# Altium footprint library 二极管、三级管.PcbLib: 3 footprints
Each footprint in its own frame and in the unit in brackets; x right, y up, seen from the top. Pads: shape width x height; smd on the part's side, far side on the other; paste and mask are expansions set on the pad; w line width, h text height; cw(c..) or ccw(c..) is an arc to the next point about the centre after c.
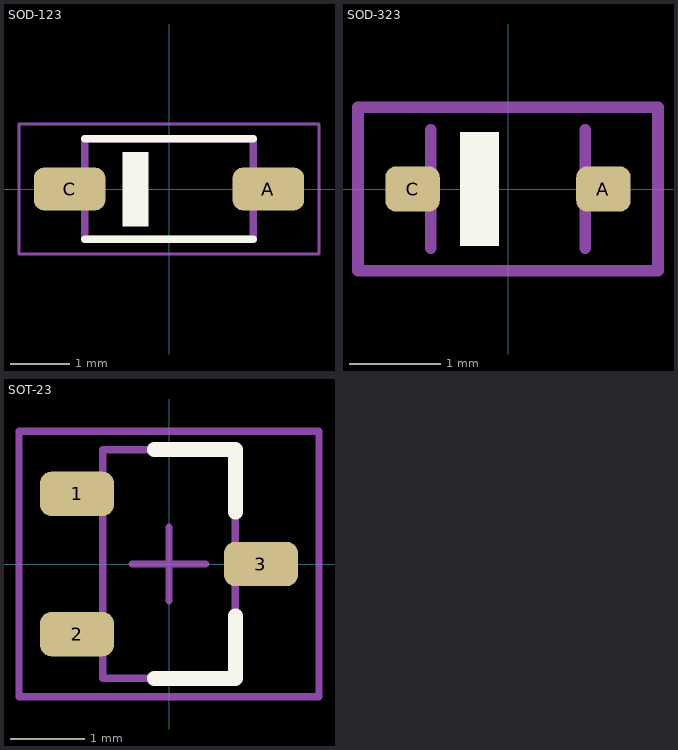
[diagram p0: the footprints below, top view; thin cyan lines are the x and y axes]

## SOD-123 [mm]
pads (2):
  rrect50% 1.21x0.73 smd: A(1.68,0) C(-1.68,0)
Top Overlay:
  region: -0.354,-0.626 -0.78,-0.626 -0.78,0.625 -0.354,0.625
  lines w0.127: -1.425,-0.85 1.425,-0.85 ; -1.425,0.85 1.425,0.85
Mechanical 13:
  lines w0.127: -1.425,-0.85 1.425,-0.85 1.425,0.85 -1.425,0.85 -1.425,-0.85
Mechanical 15:
  lines w0.05: -2.535,-1.1 2.535,-1.1 2.535,1.1 -2.535,1.1 -2.535,-1.1
3D body "1n5819hw-7-f.stp": height 1.1, standoff 0, extent -1.825,-0.788 1.825,0.762

## SOD-323 [mm]
pads (2):
  rrect50% 0.6x0.5 smd: A(1.05,0) C(-1.05,0)
Top Overlay:
  region: -0.1,-0.626 -0.526,-0.626 -0.526,0.625 -0.1,0.625
Mechanical 13:
  lines w0.127: -0.85,-0.65 -0.85,0.65 ; 0.85,-0.65 0.85,0.65
Mechanical 15:
  lines w0.127: -1.65,-0.9 1.65,-0.9 1.65,0.9 -1.65,0.9 -1.65,-0.9
3D body "1N4148WS-13-F.STEP": height 1.2, standoff 0, extent -1.25,-0.65 1.25,0.65

## SOT-23 [mm]
height 1.2
pads (3):
  rrect50% 1x0.6 smd: 1(-1.246,0.95) 2(-1.246,-0.95) 3(1.246,0)
Top Overlay:
  lines w0.2: -0.2,-1.55 0.9,-1.55 0.9,-0.7 ; -0.2,1.55 0.9,1.55 0.9,0.7
Mechanical 13:
  lines w0.1: -0.9,-1.55 -0.9,1.55 0.9,1.55 0.9,-1.55 -0.9,-1.55
Mechanical 15:
  lines w0.1: -0.5,0 0.5,0 ; 0,-0.5 0,0.5 ; -2.032,-1.8 -2.032,1.8 2.032,1.8 2.032,-1.8 -2.032,-1.8
3D body "SOT-23-3.stp": height 1.2, standoff 0, extent -1.298,-1.45 1.502,1.45